# Altium schematic symbol library DIAC.SchLib: 1 symbol
Pins are listed as number, name and electrical type; pins without a type are passive.

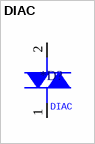
[diagram p0: symbol DIAC]

## DIAC
designator *D?, comment *DIAC  (value not drawn)
Diac thực chất là diode hai chiều
footprint D1A (Diode 1A, W 100mil, L 350mil)
footprint D1AN (Diode 1A, W 100mil, L 150mil)
footprint D0.5A (Diode muoi, W 80mil, L 300mil)
pins: 1 A, 2 K